# Altium footprint library CONN_PCIE_PCI.PcbLib: 9 footprints
Each footprint in its own frame and in the unit in brackets; x right, y up, seen from the top. Pads: shape width x height; smd on the part's side, far side on the other; paste and mask are expansions set on the pad; w line width, h text height; cw(c..) or ccw(c..) is an arc to the next point about the centre after c.
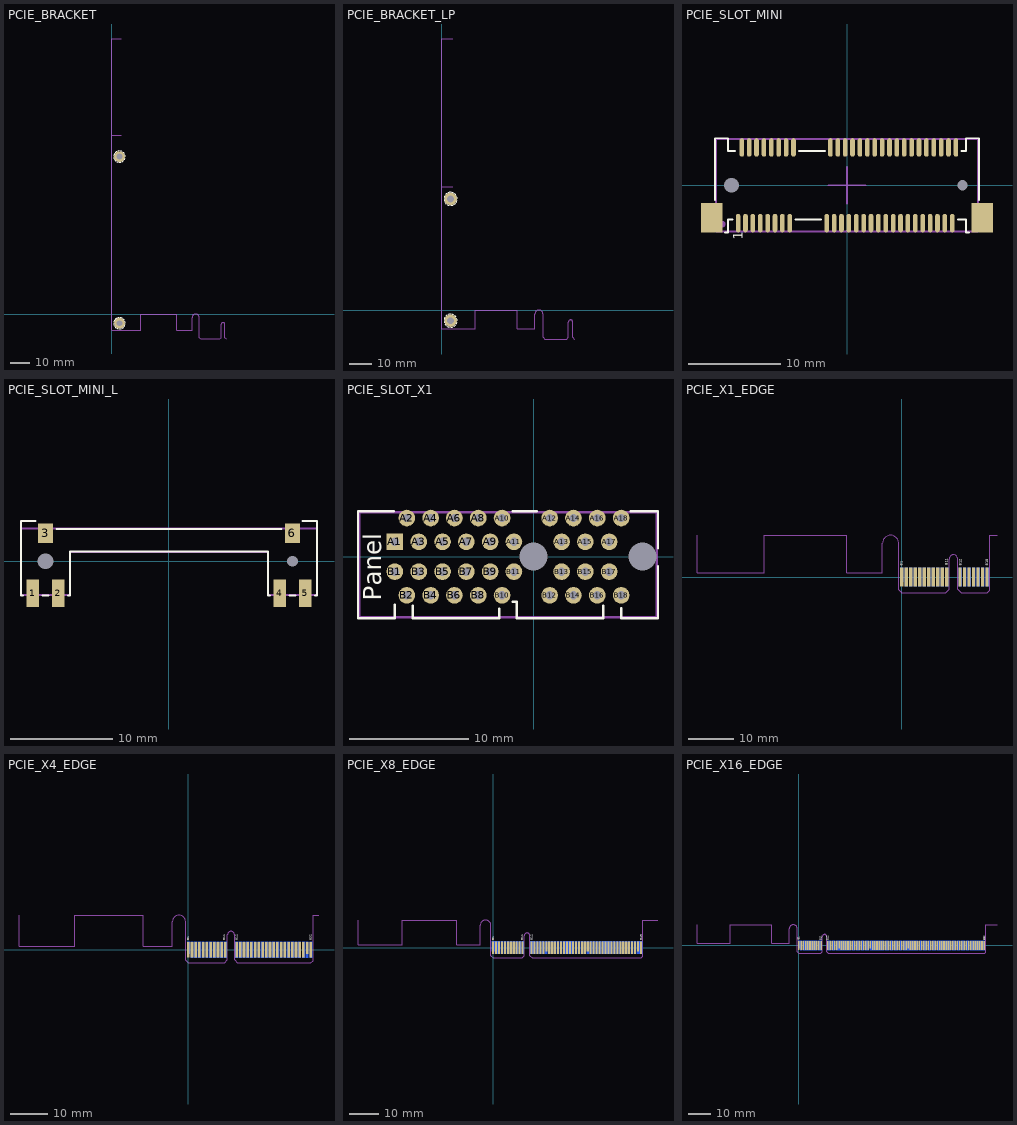
[diagram p0: the footprints below, top view; thin cyan lines are the x and y axes]

## PCIE_BRACKET [mm] "PC IO BOARD BRACKET"
pads (2):
  round 5.5 hole 3: MH1(4,-4.7)
  round 5.5 hole 3 mask+0.075: MH2(4,80.7)
TopOverlay:
  lines w0.2: 1.1,-4.7 ccw(c4,-4.7) 1.275,-5.692 ; 1.1,80.7 ccw(c4,80.7) 1.275,79.708 ; 1.144,-4.196 cw(c4,-4.7) 1.489,-3.25 ; 1.144,81.204 cw(c4,80.7) 1.489,82.15 ; 1.489,-6.15 ccw(c4,-4.7) 2.136,-6.922 ; 1.489,79.25 ccw(c4,80.7) 2.136,78.478 ; 1.778,-2.836 cw(c4,-4.7) 2.55,-2.189 ; 1.778,82.564 cw(c4,80.7) 2.55,83.211 ; 2.55,-7.211 ccw(c4,-4.7) 3.496,-7.556 ; 2.55,78.189 ccw(c4,80.7) 3.496,77.844 ; 3.008,-1.975 cw(c4,-4.7) 4,-1.8 ; 3.008,83.425 cw(c4,80.7) 4,83.6 ; 4,-7.6 ccw(c4,-4.7) 4.992,-7.425 ; 4,77.8 ccw(c4,80.7) 4.992,77.975 ; 4.504,-1.844 cw(c4,-4.7) 5.45,-2.189 ; 4.504,83.556 cw(c4,80.7) 5.45,83.211 ; 5.45,-7.211 ccw(c4,-4.7) 6.222,-6.564 ; 5.45,78.189 ccw(c4,80.7) 6.222,78.836 ; 5.864,-2.478 cw(c4,-4.7) 6.511,-3.25 ; 5.864,82.922 cw(c4,80.7) 6.511,82.15 ; 6.511,-6.15 ccw(c4,-4.7) 6.856,-5.204 ; 6.511,79.25 ccw(c4,80.7) 6.856,80.196 ; 6.725,-3.708 cw(c4,-4.7) 6.9,-4.7 ; 6.725,81.692 cw(c4,80.7) 6.9,80.7
Mechanical1:
  lines w0.1: 0,91.7 5,91.7 ; 5,141 0,141 0,-8.3 15,-8.3 15,0 33.4,0 33.4,-8.3 41.3,-8.3 41.3,-1.8 cw(c43.1,-1.8) 44.9,-1.8 44.9,-12.1 45.6,-12.8 55.4,-12.8 56.15,-12.05 56.15,-5.3 cw(c57.1,-5.3) 58.05,-5.3 58.05,-12.05 58.8,-12.8
3D body "User Library-pci bracket-1.step": height 16.91, standoff -4.68, extent -16.852,-29.305 7.151,91.705

## PCIE_BRACKET_LP [mm] "PC IO BOARD BRACKET"
pads (2):
  round 5.5 hole 3: MH1(4,-4.7) MH2(4,49.2)
TopOverlay:
  lines w0.2: 1.1,-4.7 ccw(c4,-4.7) 1.275,-5.692 ; 1.1,49.2 ccw(c4,49.2) 1.275,48.208 ; 1.144,-4.196 cw(c4,-4.7) 1.489,-3.25 ; 1.144,49.704 cw(c4,49.2) 1.489,50.65 ; 1.489,-6.15 ccw(c4,-4.7) 2.136,-6.922 ; 1.489,47.75 ccw(c4,49.2) 2.136,46.978 ; 1.778,-2.836 cw(c4,-4.7) 2.55,-2.189 ; 1.778,51.064 cw(c4,49.2) 2.55,51.711 ; 2.55,-7.211 ccw(c4,-4.7) 3.496,-7.556 ; 2.55,46.688 ccw(c4,49.2) 3.496,46.344 ; 3.008,-1.975 cw(c4,-4.7) 4,-1.8 ; 3.008,51.925 cw(c4,49.2) 4,52.1 ; 4,-7.6 ccw(c4,-4.7) 4.992,-7.425 ; 4,46.3 ccw(c4,49.2) 4.992,46.475 ; 4.504,-1.844 cw(c4,-4.7) 5.45,-2.189 ; 4.504,52.056 cw(c4,49.2) 5.45,51.711 ; 5.45,-7.211 ccw(c4,-4.7) 6.222,-6.564 ; 5.45,46.688 ccw(c4,49.2) 6.222,47.336 ; 5.864,-2.478 cw(c4,-4.7) 6.511,-3.25 ; 5.864,51.421 cw(c4,49.2) 6.511,50.65 ; 6.511,-6.15 ccw(c4,-4.7) 6.856,-5.204 ; 6.511,47.75 ccw(c4,49.2) 6.856,48.696 ; 6.725,-3.708 cw(c4,-4.7) 6.9,-4.7 ; 6.725,50.192 cw(c4,49.2) 6.9,49.2
Mechanical1:
  lines w0.1: 0,54.6 5,54.6 ; 5,120 0,120 0,-8.3 15,-8.3 15,0 33.4,0 33.4,-8.3 41.3,-8.3 41.3,-1.8 cw(c43.1,-1.8) 44.9,-1.8 44.9,-12.1 45.6,-12.8 55.4,-12.8 56.15,-12.05 56.15,-5.3 cw(c57.1,-5.3) 58.05,-5.3 58.05,-12.05 58.8,-12.8
3D body "User Library-Low Profile Bracket.step": height 20, standoff -3, extent -17.04,-25.7 9.1,54.587

## PCIE_SLOT_MINI [mm] "CONN, PCIE SLOT, MINI, 2X26, SMT 0.8mm"
pads (56):
  oval 0.5x2 smd mask+0.05: 1(-11.8,-4.1) 2(-11.4,4.1) 3(-11,-4.1) 4(-10.6,4.1) 5(-10.2,-4.1) 6(-9.8,4.1) 7(-9.4,-4.1) 8(-9,4.1) 9(-8.6,-4.1) 10(-8.2,4.1) 11(-7.8,-4.1) 12(-7.4,4.1) 13(-7,-4.1) 14(-6.6,4.1) 15(-6.2,-4.1) 16(-5.8,4.1) 17(-2.2,-4.1) 18(-1.8,4.1) 19(-1.4,-4.1) 20(-1,4.1) 21(-0.6,-4.1) 22(-0.2,4.1) 23(0.2,-4.1) 24(0.6,4.1) 25(1,-4.1) 26(1.4,4.1) 27(1.8,-4.1) 28(2.2,4.1) 29(2.6,-4.1) 30(3,4.1) 31(3.4,-4.1) 32(3.8,4.1) 33(4.2,-4.1) 34(4.6,4.1) 35(5,-4.1) 36(5.4,4.1) 37(5.8,-4.1) 38(6.2,4.1) 39(6.6,-4.1) 40(7,4.1) 41(7.4,-4.1) 42(7.8,4.1) 43(8.2,-4.1) 44(8.6,4.1) 45(9,-4.1) 46(9.4,4.1) 47(9.8,-4.1) 48(10.2,4.1) 49(10.6,-4.1) 50(11,4.1) 51(11.4,-4.1) 52(11.8,4.1)
  rect 2.3x3.2 smd: ""(-14.65,-3.5) ""(14.65,-3.5)
  rrect70% 0x0 hole 1.6: ""(-12.5,0)
  rrect70% 0x0 hole 1.1: ""(12.5,0)
TopOverlay:
  lines w0.2: -14.3,-1.6 -14.3,5.1 -12.9,5.1 -12.9,3.7 -12.1,3.7 ; -13.2,-5.1 -12.9,-5.1 -12.9,-3.7 -12.4,-3.7 ; -5.6,-3.7 -2.8,-3.7 ; -5.2,3.7 -2.4,3.7 ; 12,-3.7 12.9,-3.7 12.9,-5.1 13.2,-5.1 ; 12.4,3.7 12.9,3.7 12.9,5.1 14.3,5.1 14.3,-1.6
  text "1" at -11.3,-5.9 h1.02
Mechanical1:
  lines w0.2: -2,0 2,0 ; 0,-2 0,2
Mechanical16:
  circle w0.5: c-13.5,-4.2 r0.1
  lines w0.2: -14.2,-5 -14.2,5 14.2,5 14.2,-5 -14.2,-5
Mechanical 29:
  text ".Designator" at -0.6,1.6 h1.52
3D body "K3D-MM60-52B1-E1-R2 JAE Connector Division Proprietary.STEP": height 5.95, standoff -0.75, extent -14.85,-5 14.85,5

## PCIE_SLOT_MINI_L [mm] "CONN, PCIE LATCH, MINI, 2X26, SMT 0.8mm"
pads (8):
  rect 1.2x2.7 smd: 1(-13.35,-3.15) 2(-10.85,-3.15) 4(10.85,-3.15) 5(13.35,-3.15)
  rect 1.5x1.9 smd: 3(-12.1,2.75) 6(12.1,2.75)
  rrect70% 0x0 hole 1.55: ""(-12.1,0)
  rrect70% 0x0 hole 1.05: ""(12.1,0)
TopOverlay:
  lines w0.2: -14.3,-3.35 -14.5,-3.35 -14.5,3.95 -13.1,3.95 ; -12.4,-3.35 -11.8,-3.35 ; -11,3.15 11,3.15 ; -9.9,-3.35 -9.7,-3.35 -9.7,0.95 9.7,0.95 9.7,-3.35 9.9,-3.35 ; 11.8,-3.35 12.4,-3.35 ; 13.1,3.95 14.5,3.95 14.5,-3.35 14.3,-3.35
Mechanical16:
  lines w0.2: -14.5,-3.3 -14.5,3.2 14.5,3.2 14.5,-3.3 9.7,-3.3 9.7,0.9 -9.7,0.9 -9.7,-3.3 -14.5,-3.3
Mechanical 29:
  text ".Designator" at 1.5,1 h1
3D body "K3D-MM60-EZH059-B5-R2 JAE Connector Division Proprietary.STEP": height 6.7, standoff -0.9, extent -14.5,-3.95 14.5,3.95

## PCIE_SLOT_X1 [mm] "CONN, PCI EXPRESS Slot, 36POS, VERT, THD"
pads (38):
  rect 1.4x1.4 hole 0.7: A1(-11.65,1.25)
  round 1.4 hole 0.7: A2(-10.65,3.25) A3(-9.65,1.25) A4(-8.65,3.25) A5(-7.65,1.25) A6(-6.65,3.25) A7(-5.65,1.25) A8(-4.65,3.25) A9(-3.65,1.25) A10(-2.65,3.25) A11(-1.65,1.25) A12(1.35,3.25) A13(2.35,1.25) A14(3.35,3.25) A15(4.35,1.25) A16(5.35,3.25) A17(6.35,1.25) A18(7.35,3.25) B1(-11.65,-1.25) B2(-10.65,-3.25) B3(-9.65,-1.25) B4(-8.65,-3.25) B5(-7.65,-1.25) B6(-6.65,-3.25) B7(-5.65,-1.25) B8(-4.65,-3.25) B9(-3.65,-1.25) B10(-2.65,-3.25) B11(-1.65,-1.25) B12(1.35,-3.25) B13(2.35,-1.25) B14(3.35,-3.25) B15(4.35,-1.25) B16(5.35,-3.25) B17(6.35,-1.25) B18(7.35,-3.25)
  rrect70% 0x0 hole 2.35: ""(0,0) ""(9.15,0)
TopOverlay:
  lines w0.2: -11.75,3.825 -14.75,3.825 -14.75,-5.175 -11.65,-5.175 -11.65,-4.025 ; -10.15,-4.125 -10.15,-5.175 -2.9,-5.175 -2.9,-4.375 ; -1.75,-3.775 -1.4,-3.775 -1.4,-5.175 5.85,-5.175 5.85,-4.125 ; -1.75,3.825 0.25,3.825 ; 7.35,-4.325 7.35,-5.175 10.45,-5.175 10.45,-0.8 ; 8.15,3.825 10.45,3.825 10.45,0.7
  text "Panel" at -12.8,-3.7 h1.5
Mechanical16:
  lines w0.2: -14.65,-5.075 -14.65,3.725 10.35,3.725 10.35,-5.075 -14.65,-5.075
Mechanical 29:
  text ".Designator" at -0.5,0.3 h1.52
3D body "c-4-1612163-1-h-3d.stp": height 10, standoff -5.4, extent -14.65,-5.1 10.35,3.6

## PCIE_X1_EDGE [mm] "PCIE, 1LANE, EDGE pcb connections"
height 0.7
pads (36):
  rect 0.7x3.2 smd far side: A1(0,0.5)
  rect 0.7x4.2 smd far side: A2(1,0) A3(2,0) A4(3,0) A5(4,0) A6(5,0) A7(6,0) A8(7,0) A9(8,0) A10(9,0) A11(10,0) A12(13,0) A13(14,0) A14(15,0) A15(16,0) A16(17,0) A17(18,0) A18(19,0)
  rect 0.7x4.2 smd: B1(0,0) B2(1,0) B3(2,0) B4(3,0) B5(4,0) B6(5,0) B7(6,0) B8(7,0) B9(8,0) B10(9,0) B11(10,0) B12(13,0) B13(14,0) B14(15,0) B15(16,0) B16(17,0) B17(18,0) B18(19,0)
TopOverlay:
  text "B18" at 19.3,2.5 h0.6
  text "B12" at 13.3,2.5 h0.6
  text "B11" at 10.2,2.6 h0.6
  text "B1" at 0.2,2.5 h0.6
BottomOverlay:
  text "A18" at 19.3,4 h0.6
  text "A12" at 13.3,3.9 h0.6
  text "A11" at 10.2,3.9 h0.6
  text "A1" at 0.1,3.3 h0.6
Mechanical1:
  lines w0.1: -45.6,9.3 -45.6,1 -30.6,1 -30.6,9.3 -12.2,9.3 -12.2,1 -4.3,1 -4.3,7.5 cw(c-2.5,7.5) -0.7,7.5 -0.7,-2.8 0,-3.5 9.8,-3.5 10.55,-2.75 10.55,4 cw(c11.5,4) 12.45,4 12.45,-2.75 13.2,-3.5 19,-3.5 19.6,-2.9 19.6,9.3 21.2,9.3

## PCIE_X4_EDGE [mm] "PCIE, 4LANE, EDGE pcb connections"
height 0.7
pads (64):
  rect 0.7x3.2 smd far side: A1(0,0.5)
  rect 0.7x4.2 smd far side: A2(1,0) A3(2,0) A4(3,0) A5(4,0) A6(5,0) A7(6,0) A8(7,0) A9(8,0) A10(9,0) A11(10,0) A12(13,0) A13(14,0) A14(15,0) A15(16,0) A16(17,0) A17(18,0) A18(19,0) A19(20,0) A20(21,0) A21(22,0) A22(23,0) A23(24,0) A24(25,0) A25(26,0) A26(27,0) A27(28,0) A28(29,0) A29(30,0) A30(31,0) A31(32,0) A32(33,0)
  rect 0.7x4.2 smd: B1(0,0) B2(1,0) B3(2,0) B4(3,0) B5(4,0) B6(5,0) B7(6,0) B8(7,0) B9(8,0) B10(9,0) B11(10,0) B12(13,0) B13(14,0) B14(15,0) B15(16,0) B16(17,0) B17(18,0) B18(19,0) B19(20,0) B20(21,0) B21(22,0) B22(23,0) B23(24,0) B24(25,0) B25(26,0) B26(27,0) B27(28,0) B28(29,0) B29(30,0) B30(31,0) B32(33,0)
  rect 0.7x3.2 smd: B31(32,0.5)
TopOverlay:
  text "B1" at 0.2,2.5 h0.6
  text "B11" at 10,2.5 h0.6
  text "B12" at 13.3,2.5 h0.6
  text "B32" at 33.3,2.5 h0.6
BottomOverlay:
  text "A1" at 0.2,4 h0.6
  text "A11" at 10.1,4 h0.6
  text "A12" at 13.3,4 h0.6
  text "A32" at 33.3,4 h0.6
Mechanical1:
  lines w0.1: -45.6,9.3 -45.6,1 -30.6,1 -30.6,9.3 -12.2,9.3 -12.2,1 -4.3,1 -4.3,7.5 cw(c-2.5,7.5) -0.7,7.5 -0.7,-2.8 0,-3.5 9.8,-3.5 10.55,-2.75 10.55,4 cw(c11.5,4) 12.45,4 12.45,-2.75 13.2,-3.5 33,-3.5 33.6,-2.9 33.6,9.3 35.2,9.3

## PCIE_X8_EDGE [mm] "PCIE, 8LANE, EDGE pcb connections"
pads (98):
  rect 0.7x3.4 smd far side: A1(0,0.4)
  rect 0.7x4.2 smd far side: A2(1,0) A3(2,0) A4(3,0) A5(4,0) A6(5,0) A7(6,0) A8(7,0) A9(8,0) A10(9,0) A11(10,0) A12(13,0) A13(14,0) A14(15,0) A15(16,0) A16(17,0) A17(18,0) A18(19,0) A19(20,0) A20(21,0) A21(22,0) A22(23,0) A23(24,0) A24(25,0) A25(26,0) A26(27,0) A27(28,0) A28(29,0) A29(30,0) A30(31,0) A31(32,0) A32(33,0) A33(34,0) A34(35,0) A35(36,0) A36(37,0) A37(38,0) A38(39,0) A39(40,0) A40(41,0) A41(42,0) A42(43,0) A43(44,0) A44(45,0) A45(46,0) A46(47,0) A47(48,0) A48(49,0) A49(50,0)
  rect 0.7x4.2 smd: B1(0,0) B2(1,0) B3(2,0) B4(3,0) B5(4,0) B6(5,0) B7(6,0) B8(7,0) B9(8,0) B10(9,0) B11(10,0) B12(13,0) B13(14,0) B14(15,0) B15(16,0) B16(17,0) B18(19,0) B19(20,0) B20(21,0) B21(22,0) B22(23,0) B23(24,0) B24(25,0) B25(26,0) B26(27,0) B27(28,0) B28(29,0) B29(30,0) B30(31,0) B32(33,0) B33(34,0) B34(35,0) B35(36,0) B36(37,0) B37(38,0) B38(39,0) B39(40,0) B40(41,0) B41(42,0) B42(43,0) B43(44,0) B44(45,0) B45(46,0) B46(47,0) B47(48,0) B49(50,0)
  rect 0.7x3.4 smd: B17(18,0.4) B31(32,0.4) B48(49,0.4)
TopOverlay:
  text "B1" at 0.5,2.5 h0.8
  text "B12" at 13.5,2.4 h0.8
  text "B11" at 10.3,2.4 h0.8
  text "B49" at 50.4,2.4 h0.8
BottomOverlay:
  text "A1" at 0.536,3.585 h0.8
  text "A11" at 10.2,3.941 h0.8
  text "A12" at 13.561,4.339 h0.8
  text "A49" at 50.391,4.477 h0.8
Mechanical1:
  lines w0.1: -45.6,9.3 -45.6,1 -30.6,1 -30.6,9.3 -12.2,9.3 -12.2,1 -4.3,1 -4.3,7.5 cw(c-2.5,7.5) -0.7,7.5 -0.7,-2.8 0,-3.5 9.8,-3.5 10.55,-2.75 10.55,4 cw(c11.5,4) 12.45,4 12.45,-2.75 13.2,-3.5 50.15,-3.5 ; 50.15,-3.475 50.65,-2.975 50.65,9.275 55.73,9.275

## PCIE_X16_EDGE [mm] "PCIE, 16LANE, EDGE pcb connections"
pads (164):
  rect 0.7x3.4 smd far side: A1(0,0.4)
  rect 0.7x4.2 smd far side: A2(1,0) A3(2,0) A4(3,0) A5(4,0) A6(5,0) A7(6,0) A8(7,0) A9(8,0) A10(9,0) A11(10,0) A12(13,0) A13(14,0) A14(15,0) A15(16,0) A16(17,0) A17(18,0) A18(19,0) A19(20,0) A20(21,0) A21(22,0) A22(23,0) A23(24,0) A24(25,0) A25(26,0) A26(27,0) A27(28,0) A28(29,0) A29(30,0) A30(31,0) A31(32,0) A32(33,0) A33(34,0) A34(35,0) A35(36,0) A36(37,0) A37(38,0) A38(39,0) A39(40,0) A40(41,0) A41(42,0) A42(43,0) A43(44,0) A44(45,0) A45(46,0) A46(47,0) A47(48,0) A48(49,0) A49(50,0) A50(51,0) A51(52,0) A52(53,0) A53(54,0) A54(55,0) A55(56,0) A56(57,0) A57(58,0) A58(59,0) A59(60,0) A60(61,0) A61(62,0) A62(63,0) A63(64,0) A64(65,0) A65(66,0) A66(67,0) A67(68,0) A68(69,0) A69(70,0) A70(71,0) A71(72,0) A72(73,0) A73(74,0) A74(75,0) A75(76,0) A76(77,0) A77(78,0) A78(79,0) A79(80,0) A80(81,0) A81(82,0) A82(83,0)
  rect 0.7x4.2 smd: B1(0,0) B2(1,0) B3(2,0) B4(3,0) B5(4,0) B6(5,0) B7(6,0) B8(7,0) B9(8,0) B10(9,0) B11(10,0) B12(13,0) B13(14,0) B14(15,0) B15(16,0) B16(17,0) B18(19,0) B19(20,0) B20(21,0) B21(22,0) B22(23,0) B23(24,0) B24(25,0) B25(26,0) B26(27,0) B27(28,0) B28(29,0) B29(30,0) B30(31,0) B32(33,0) B33(34,0) B34(35,0) B35(36,0) B36(37,0) B37(38,0) B38(39,0) B39(40,0) B40(41,0) B41(42,0) B42(43,0) B43(44,0) B44(45,0) B45(46,0) B46(47,0) B47(48,0) B49(50,0) B50(51,0) B51(52,0) B52(53,0) B53(54,0) B54(55,0) B55(56,0) B56(57,0) B57(58,0) B58(59,0) B59(60,0) B60(61,0) B61(62,0) B62(63,0) B63(64,0) B64(65,0) B65(66,0) B66(67,0) B67(68,0) B68(69,0) B69(70,0) B70(71,0) B71(72,0) B72(73,0) B73(74,0) B74(75,0) B75(76,0) B76(77,0) B77(78,0) B78(79,0) B79(80,0) B80(81,0) B81(82,0) B82(83,0)
  rect 0.7x3.4 smd: B17(18,0.4) B31(32,0.4) B48(49,0.4)
TopOverlay:
  text "B82" at 83.4,2.4 h0.8
  text "B11" at 10.3,2.4 h0.8
  text "B12" at 13.5,2.4 h0.8
  text "B1" at 0.5,2.5 h0.8
BottomOverlay:
  text "A82" at 83.391,4.477 h0.8
  text "A12" at 13.561,4.339 h0.8
  text "A11" at 10.2,3.941 h0.8
  text "A1" at 0.536,3.585 h0.8
Mechanical1:
  lines w0.1: -45.6,9.3 -45.6,1 -30.6,1 -30.6,9.3 -12.2,9.3 -12.2,1 -4.3,1 -4.3,7.5 cw(c-2.5,7.5) -0.7,7.5 -0.7,-2.8 0,-3.5 9.8,-3.5 10.55,-2.75 10.55,4 cw(c11.5,4) 12.45,4 12.45,-2.75 13.2,-3.5 83.15,-3.5 ; 83.15,-3.475 83.65,-2.975 83.65,9.275 88.73,9.275